# Altium schematic symbol library Q_NFET_DUAL_6PIN_ROTATESAFE.SchLib: 1 symbol
Pins are listed as number, name and electrical type; pins without a type are passive.

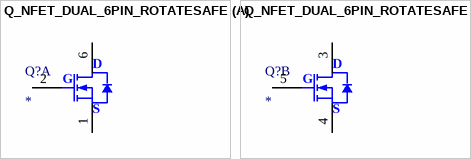
[diagram p0: symbol Q_NFET_DUAL_6PIN_ROTATESAFE]

## Q_NFET_DUAL_6PIN_ROTATESAFE
designator Q?
part A pins: 1 S2, 2 G2, 6 D2
part B pins: 3 D1, 4 S1, 5 G1
part A text: D; G; S
part B text: D; G; S